# EAGLE library part 653115131822 (library Wuerth_Elektronik_eiCan_Wire_to_Board_Connectors v1.2)
WR-WTB 1.25mm SMT Male Horizontal Shrouded Header, 15 Pins
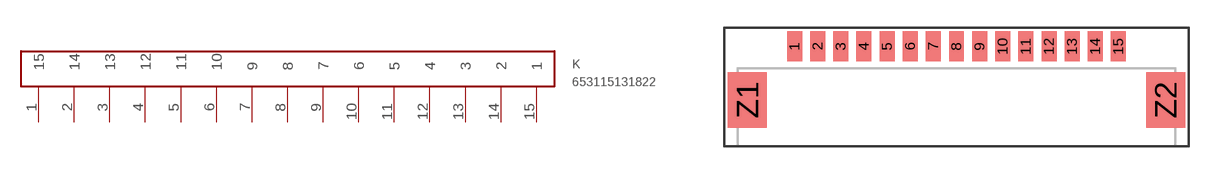
[diagram p72: symbol with the pads of 653115131822; footprint 653115131822]

Designator prefix K

## 653115131822  [653115131822]
1  15
2  14
3  13
4  12
5  11
6  10
7  9
8  8
9  7
10  6
11  5
12  4
13  3
14  2
15  1

## Footprint 653115131822 (pad centres in mm)
WR-WTB 1.25mm SMT Male Horizontal Shrouded Header, 15 Pins
smd 0.81 x 1.6: 1 -0.625,0; 2 0.625,0; 3 1.875,0; 4 3.125,0; 5 4.375,0; 6 5.625,0; 7 6.875,0; 8 8.125,0; 9 9.375,0; 10 10.625,0; 11 11.875,0; 12 13.125,0; 13 14.375,0; 14 15.625,0; 15 16.875,0
smd 2.1 x 3: Z1 -3.175,-2.9; Z2 19.425,-2.9